# Altium integrated library Texas Instruments Interface Equalizer and Redriver.IntLib: 53 symbols (part 4 of 4)
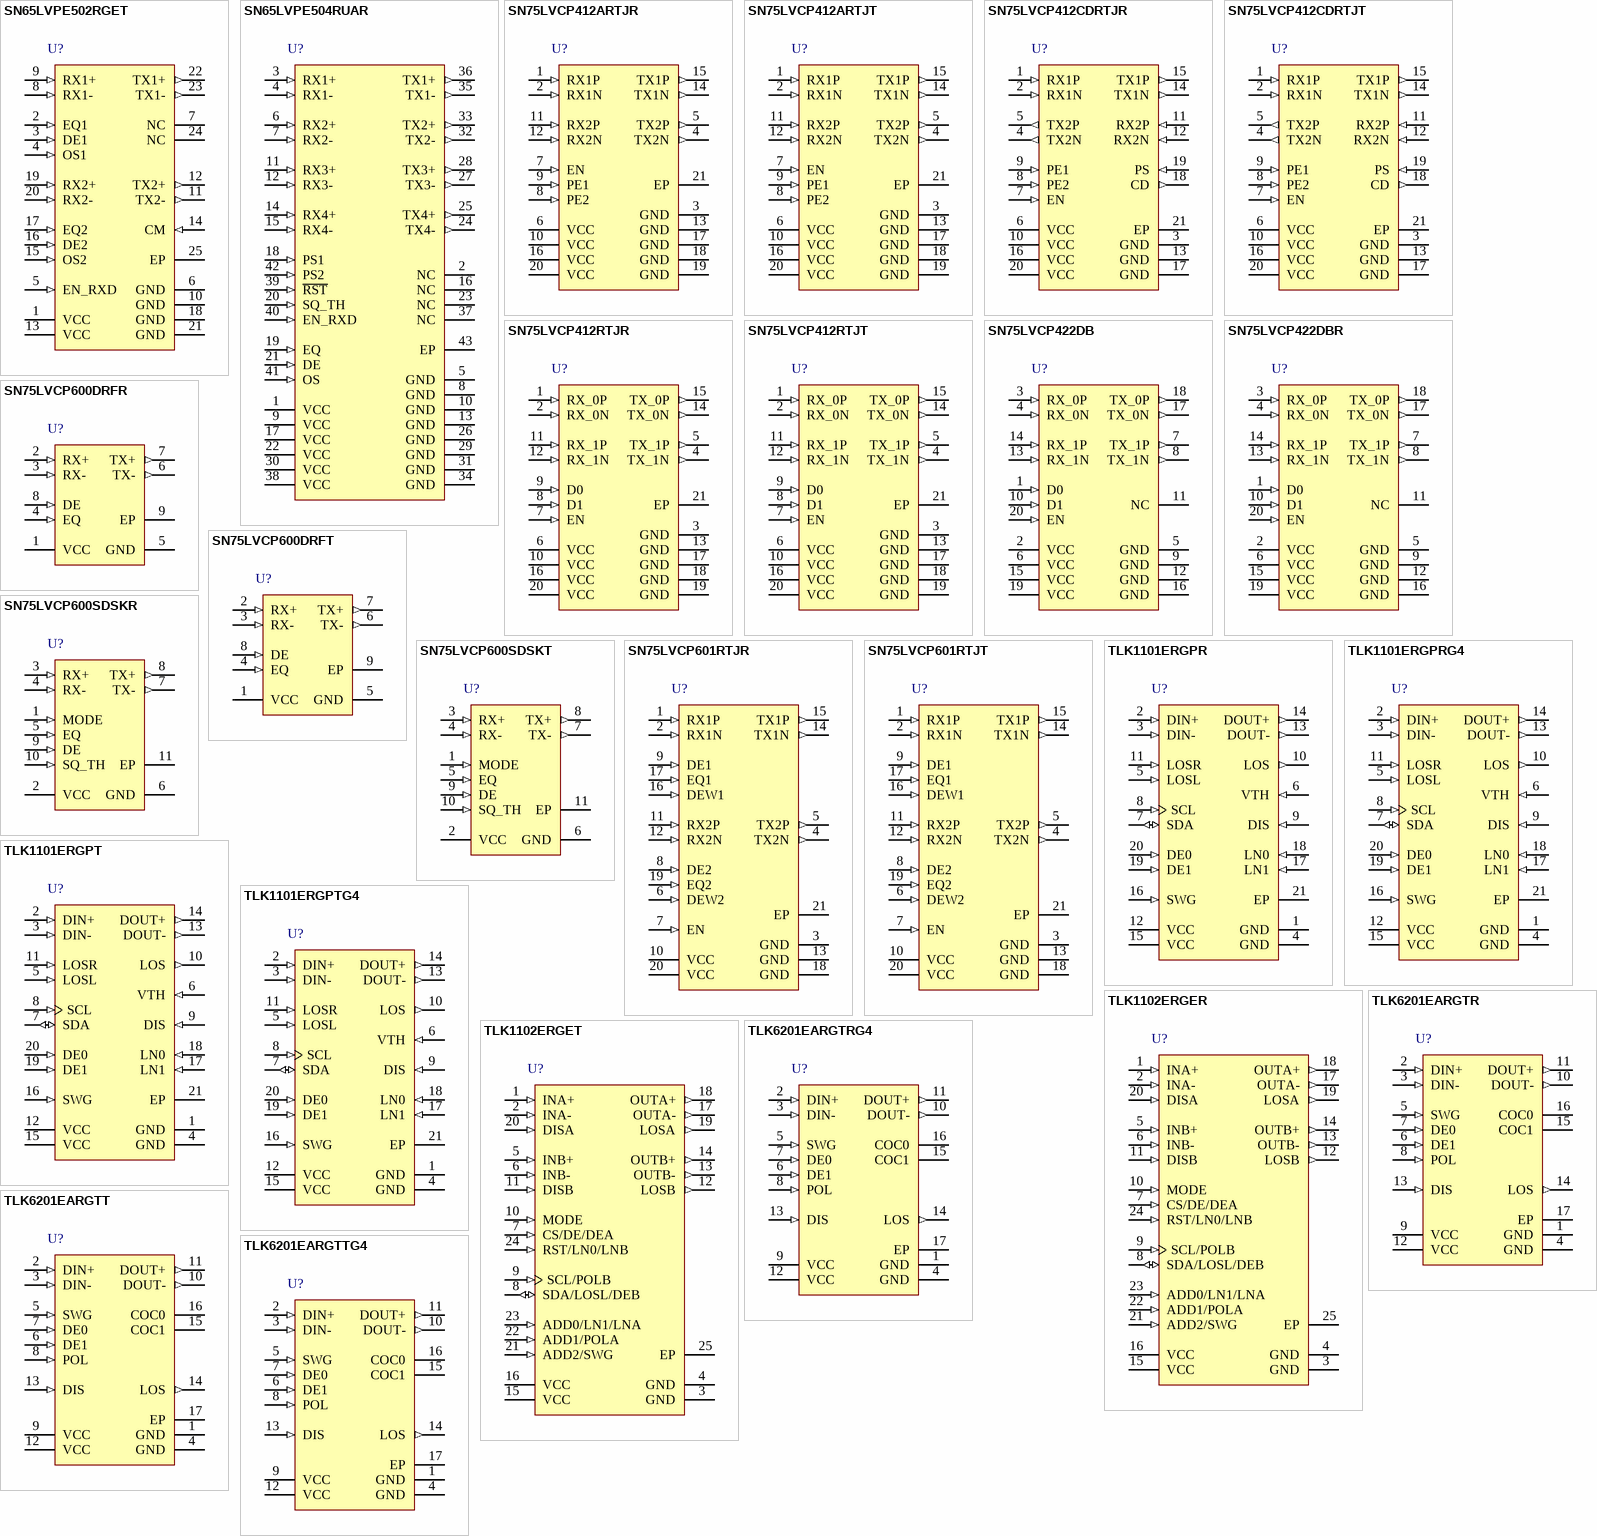
[diagram p5: symbols SN65LVPE502RGET to TLK6201EARGTTG4]

## TLK1101ERGPRG4
designator U?
11.3 Gbps Cable and PC Board Equalizer, 1 Channel, AC-Coupled to AC-Coupled, 3.3V, -40 to 100 degC, 20-Pin QFN (RGP), Green (RoHS & no Sb/Br); PartNumber: TLK1101ERGPRG4; Manufacturer: Texas Instruments; Protocols: 10GbE, 10GFC; Speed(Max)(Gbps): 11.3; Number of Channels: 1; SupplyVoltage(Volt): 3.3; ICC(Max)(mA): 120; OUT SigCon: DE; ESD HBM(kV): 2.5; DatasheetVersion: SLLS845A; PackageVersion: revG, Jul-2011; PackageReference: RGP20-2700X2700TP; PackageDescription: 20-Pin Plastic Quad Flatpack No-Lead, 4 x 4 mm Body, 0.5 mm Pitch; Mounting Technology: Surface Mount; Eco-Plan: Green (RoHS & no Sb/Br); Input Compatibility: AC-Coupled; Output Compatibility: AC-Coupled; Function: Equalizer; Code_JEDEC: MO-220; ComponentLink1Description: Datasheet; ComponentLink1URL: http://www.ti.com/general/docs/lit/getliterature.tsp?genericPartNumber=TLK1101E&fileType=pdf; ComponentLink2Description: Package Specification; ComponentLink2URL: http://www.ti.com/litv/pdf/mpqf126f
footprint RGP20-2700X2700TP (QFN, 20-Leads, Body 4x4mm, Pitch 0.5mm, Thermal Pad 2.7x2.7mm, TI Recommended)
pins: 1 GND (power) "Circuit ground.", 2 DIN+ (in) "Non-inverted data input. On-chip 50ohm terminated to VCC.", 3 DIN- (in) "Inverted data input. On-chip 50ohm terminated to VCC.", 4 GND (power) "Circuit ground.", 5 LOSL (in) "LOS threshold control. A controlling voltage on this pin adjusts the LOS assert and de-assert levels.", 6 VTH (in) "Input signal threshold control. A controlling voltage of 0V to 1V on this pin adjusts the input signal threshold. Leave open for the default 0V differential threshold.", 7 SDA (io) "Bidirectional serial data pin for the SDA/SCL interface. Open drain. Always connect to a pull-up resistor.", 8 SCL (in) "Serial clock pin for the SDA/SCL interface. Always connect to a pull-up resistor.", 9 DIS (in) "Disables CML output stage when set to high level. Internally pulled down.", 10 LOS (out) "High level indicates that the input signal amplitude is below the programmed threshold level. Open drain. Requires an external 10kohm pull-up resistor to VCC for proper operation.", 11 LOSR (in) "LOS range select. Set to high level or leave open for upper range, or set to low level for lower range.", 12 VCC (power) "3.3V +/- 10% supply voltage.", 13 DOUT- (out) "Inverted data output. On-chip 50ohm back-terminated to VCC.", 14 DOUT+ (out) "Non-inverted data output. On-chip 50ohm back-terminated to VCC.", 15 VCC (power) "3.3V +/- 10% supply voltage.", 16 SWG (in) "Output voltage swing control. Set to high level for high swing, set to low level for low swing, or leave open for medium swing.", 17 LN1 (in) "Interconnect length select. Supports two logic levels: high and low. (see Table 2)", 18 LN0 (in) "Interconnect length select. Supports two logic levels: high and low. (see Table 2)", 19 DE1 (in) "Output signal de-emphasis control. Supports three logic levels: high, low, and open. (see Table 1)", 20 DE0 (in) "Output signal de-emphasis control. Supports three logic levels: high, low, and open. (see Table 1)", 21 EP (power) "Exposed die pad (EP) must be grounded."

## TLK1101ERGPT
designator U?
11.3 Gbps Cable and PC Board Equalizer, 1 Channel, AC-Coupled to AC-Coupled, 3.3V, -40 to 100 degC, 20-Pin QFN (RGP), Green (RoHS & no Sb/Br); PartNumber: TLK1101ERGPT; Manufacturer: Texas Instruments; Protocols: 10GbE, 10GFC; Speed(Max)(Gbps): 11.3; Number of Channels: 1; SupplyVoltage(Volt): 3.3; ICC(Max)(mA): 120; OUT SigCon: DE; ESD HBM(kV): 2.5; DatasheetVersion: SLLS845A; PackageVersion: revG, Jul-2011; PackageReference: RGP20-2700X2700TP; PackageDescription: 20-Pin Plastic Quad Flatpack No-Lead, 4 x 4 mm Body, 0.5 mm Pitch; Mounting Technology: Surface Mount; Eco-Plan: Green (RoHS & no Sb/Br); Input Compatibility: AC-Coupled; Output Compatibility: AC-Coupled; Function: Equalizer; Code_JEDEC: MO-220; ComponentLink1Description: Datasheet; ComponentLink1URL: http://www.ti.com/general/docs/lit/getliterature.tsp?genericPartNumber=TLK1101E&fileType=pdf; ComponentLink2Description: Package Specification; ComponentLink2URL: http://www.ti.com/litv/pdf/mpqf126f
footprint RGP20-2700X2700TP (QFN, 20-Leads, Body 4x4mm, Pitch 0.5mm, Thermal Pad 2.7x2.7mm, TI Recommended)
pins: 1 GND (power) "Circuit ground.", 2 DIN+ (in) "Non-inverted data input. On-chip 50ohm terminated to VCC.", 3 DIN- (in) "Inverted data input. On-chip 50ohm terminated to VCC.", 4 GND (power) "Circuit ground.", 5 LOSL (in) "LOS threshold control. A controlling voltage on this pin adjusts the LOS assert and de-assert levels.", 6 VTH (in) "Input signal threshold control. A controlling voltage of 0V to 1V on this pin adjusts the input signal threshold. Leave open for the default 0V differential threshold.", 7 SDA (io) "Bidirectional serial data pin for the SDA/SCL interface. Open drain. Always connect to a pull-up resistor.", 8 SCL (in) "Serial clock pin for the SDA/SCL interface. Always connect to a pull-up resistor.", 9 DIS (in) "Disables CML output stage when set to high level. Internally pulled down.", 10 LOS (out) "High level indicates that the input signal amplitude is below the programmed threshold level. Open drain. Requires an external 10kohm pull-up resistor to VCC for proper operation.", 11 LOSR (in) "LOS range select. Set to high level or leave open for upper range, or set to low level for lower range.", 12 VCC (power) "3.3V +/- 10% supply voltage.", 13 DOUT- (out) "Inverted data output. On-chip 50ohm back-terminated to VCC.", 14 DOUT+ (out) "Non-inverted data output. On-chip 50ohm back-terminated to VCC.", 15 VCC (power) "3.3V +/- 10% supply voltage.", 16 SWG (in) "Output voltage swing control. Set to high level for high swing, set to low level for low swing, or leave open for medium swing.", 17 LN1 (in) "Interconnect length select. Supports two logic levels: high and low. (see Table 2)", 18 LN0 (in) "Interconnect length select. Supports two logic levels: high and low. (see Table 2)", 19 DE1 (in) "Output signal de-emphasis control. Supports three logic levels: high, low, and open. (see Table 1)", 20 DE0 (in) "Output signal de-emphasis control. Supports three logic levels: high, low, and open. (see Table 1)", 21 EP (power) "Exposed die pad (EP) must be grounded."

## TLK1101ERGPTG4
designator U?
11.3 Gbps Cable and PC Board Equalizer, 1 Channel, AC-Coupled to AC-Coupled, 3.3V, -40 to 100 degC, 20-Pin QFN (RGP), Green (RoHS & no Sb/Br); PartNumber: TLK1101ERGPTG4; Manufacturer: Texas Instruments; Protocols: 10GbE, 10GFC; Speed(Max)(Gbps): 11.3; Number of Channels: 1; SupplyVoltage(Volt): 3.3; ICC(Max)(mA): 120; OUT SigCon: DE; ESD HBM(kV): 2.5; DatasheetVersion: SLLS845A; PackageVersion: revG, Jul-2011; PackageReference: RGP20-2700X2700TP; PackageDescription: 20-Pin Plastic Quad Flatpack No-Lead, 4 x 4 mm Body, 0.5 mm Pitch; Mounting Technology: Surface Mount; Eco-Plan: Green (RoHS & no Sb/Br); Input Compatibility: AC-Coupled; Output Compatibility: AC-Coupled; Function: Equalizer; Code_JEDEC: MO-220; ComponentLink1Description: Datasheet; ComponentLink1URL: http://www.ti.com/general/docs/lit/getliterature.tsp?genericPartNumber=TLK1101E&fileType=pdf; ComponentLink2Description: Package Specification; ComponentLink2URL: http://www.ti.com/litv/pdf/mpqf126f
footprint RGP20-2700X2700TP (QFN, 20-Leads, Body 4x4mm, Pitch 0.5mm, Thermal Pad 2.7x2.7mm, TI Recommended)
pins: 1 GND (power) "Circuit ground.", 2 DIN+ (in) "Non-inverted data input. On-chip 50ohm terminated to VCC.", 3 DIN- (in) "Inverted data input. On-chip 50ohm terminated to VCC.", 4 GND (power) "Circuit ground.", 5 LOSL (in) "LOS threshold control. A controlling voltage on this pin adjusts the LOS assert and de-assert levels.", 6 VTH (in) "Input signal threshold control. A controlling voltage of 0V to 1V on this pin adjusts the input signal threshold. Leave open for the default 0V differential threshold.", 7 SDA (io) "Bidirectional serial data pin for the SDA/SCL interface. Open drain. Always connect to a pull-up resistor.", 8 SCL (in) "Serial clock pin for the SDA/SCL interface. Always connect to a pull-up resistor.", 9 DIS (in) "Disables CML output stage when set to high level. Internally pulled down.", 10 LOS (out) "High level indicates that the input signal amplitude is below the programmed threshold level. Open drain. Requires an external 10kohm pull-up resistor to VCC for proper operation.", 11 LOSR (in) "LOS range select. Set to high level or leave open for upper range, or set to low level for lower range.", 12 VCC (power) "3.3V +/- 10% supply voltage.", 13 DOUT- (out) "Inverted data output. On-chip 50ohm back-terminated to VCC.", 14 DOUT+ (out) "Non-inverted data output. On-chip 50ohm back-terminated to VCC.", 15 VCC (power) "3.3V +/- 10% supply voltage.", 16 SWG (in) "Output voltage swing control. Set to high level for high swing, set to low level for low swing, or leave open for medium swing.", 17 LN1 (in) "Interconnect length select. Supports two logic levels: high and low. (see Table 2)", 18 LN0 (in) "Interconnect length select. Supports two logic levels: high and low. (see Table 2)", 19 DE1 (in) "Output signal de-emphasis control. Supports three logic levels: high, low, and open. (see Table 1)", 20 DE0 (in) "Output signal de-emphasis control. Supports three logic levels: high, low, and open. (see Table 1)", 21 EP (power) "Exposed die pad (EP) must be grounded."

## TLK1102ERGER
designator U?
11.3 Gbps Dual-Channel Cable and PC Board Equalizer, 3.3V, -40 to 100 degC, 24-Pin VQFN (RGE), Green(RoHS& no Sb/Br); PartNumber: TLK1102ERGER; Manufacturer: Texas Instruments; Protocols: 10GbE, 10GFC; Speed(Max)(Gbps): 11.3; Number of Channels: 2; SupplyVoltage(Volt): 3.3; ICC(Max)(mA): 290; IN SigCon: EQ; OUT SigCon: DE; Input Compatibility: AC-Coupled; Output Compatibility: CML, AC-Coupled; ESD HBM(kV): 2.5; Function: Redriver; DatasheetVersion: SLLS958; PackageVersion: revG, Jul-2011; PackageReference: RGE24-2800X2800TP; PackageDescription: 24-Pin Plastic Quad Flatpack No-Lead, 4 x 4 mm Body, 0.5 mm Pitch; Mounting Technology: Surface Mount; Eco-Plan: Green (RoHS & no Sb/Br); Code_JEDEC: MO-220; ComponentLink1Description: Datasheet; ComponentLink1URL: http://www.ti.com/general/docs/lit/getliterature.tsp?genericPartNumber=TLK1102E&fileType=pdf; ComponentLink2Description: Package Specification; ComponentLink2URL: http://www.ti.com/litv/pdf/mpqf124f
footprint RGE24-2800X2800TP (QFN, 24-Leads, Body 4x4mm, Pitch 0.5mm, Thermal Pad 2.8x2.8mm, TI Recommended)
pins: 1 INA+ (in) "First pair of differential data inputs. Each pin is on-chip 50ohm terminated to VCC.", 2 INA- (in) "First pair of differential data inputs. Each pin is on-chip 50ohm terminated to VCC.", 3 GND (power) "Circuit ground", 4 GND (power) "Circuit ground", 5 INB+ (in) "Second pair of differential data inputs. Each pin is on-chip 50ohm terminated to VCC.", 6 INB- (in) "Second pair of differential data inputs. Each pin is on-chip 50ohm terminated to VCC.", 7 CS/DE/DEA (in) "Chip Select pin. Disables the two-wire serial interface when set to low level. Internally pulled up.", 8 SDA/LOSL/DEB (io) "Bidirectional serial data pin for the two-wire serial interface. Open drain. Connect to a 10kohm pull-up resistor if used. Leave open if unused.", 9 SCL/POLB (in) "Serial clock pin for the two-wire serial interface. Connect to a 10kohm pull-up resistor if used. Leave open if unused. Internally pulled up to VCC with a 500kohm resistor.", 10 MODE (in) "Device control mode select. Pull up to VCC for the two-wire serial interface control mode.", 11 DISB (in) "Disables CML output stage for OUTB+ and OUTB- when set to high level. Internally pulled down", 12 LOSB (out) "High level indicates that the input signal amplitude on INB+/INB- is below the programmed threshold level. Open drain. [see datasheet]", 13 OUTB- (out) "Second pair of differential data outputs. Each pin is on-chip 50ohm terminated to VCC.", 14 OUTB+ (out) "Second pair of differential data outputs. Each pin is on-chip 50ohm terminated to VCC.", 15 VCC (power) "3.3V +/- 10% supply voltage", 16 VCC (power) "3.3V +/- 10% supply voltage", 17 OUTA- (out) "First pair of differential data outputs. Each pin is on-chip 50ohm terminated to VCC.", 18 OUTA+ (out) "First pair of differential data outputs. Each pin is on-chip 50ohm terminated to VCC.", 19 LOSA (out) "High level indicates that the input signal amplitude on INA+/INA- is below the programmed threshold level. Open drain. [see datasheet]", 20 DISA (in) "Disables CML output stage for OUTA+ and OUTA- when set to high level. Internally pulled down.", 21 ADD2/SWG (in) "Configurable least significant bits (ADD[2:0]) of the two-wire serial interface device address. The 23 ADD0 fixed most significant bits (ADD[6:3]) of the 7-bit device address are 0101. [see datasheet]", 22 ADD1/POLA (in) "Configurable least significant bits (ADD[2:0]) of the two-wire serial interface device address. The 23 ADD0 fixed most significant bits (ADD[6:3]) of the 7-bit device address are 0101. [see datasheet]", 23 ADD0/LN1/LNA (in) "Configurable least significant bits (ADD[2:0]) of the two-wire serial interface device address. The 23 ADD0 fixed most significant bits (ADD[6:3]) of the 7-bit device address are 0101. [see datasheet]", 24 RST/LN0/LNB (in) "Reset pin. Resets all the device digital circuits when set to high level. Internally pulled down", 25 EP (power) "Exposed die pad (EP) must be grounded."

## TLK1102ERGET
designator U?
11.3 Gbps Dual-Channel Cable and PC Board Equalizer, 3.3V, -40 to 100 degC, 24-Pin VQFN (RGE), Green(RoHS& no Sb/Br); PartNumber: TLK1102ERGET; Manufacturer: Texas Instruments; Protocols: 10GbE, 10GFC; Speed(Max)(Gbps): 11.3; Number of Channels: 2; SupplyVoltage(Volt): 3.3; ICC(Max)(mA): 290; IN SigCon: EQ; OUT SigCon: DE; Input Compatibility: AC-Coupled; Output Compatibility: CML, AC-Coupled; ESD HBM(kV): 2.5; Function: Redriver; DatasheetVersion: SLLS958; PackageVersion: revG, Jul-2011; PackageReference: RGE24-2800X2800TP; PackageDescription: 24-Pin Plastic Quad Flatpack No-Lead, 4 x 4 mm Body, 0.5 mm Pitch; Mounting Technology: Surface Mount; Eco-Plan: Green (RoHS & no Sb/Br); Code_JEDEC: MO-220; ComponentLink1Description: Datasheet; ComponentLink1URL: http://www.ti.com/general/docs/lit/getliterature.tsp?genericPartNumber=TLK1102E&fileType=pdf; ComponentLink2Description: Package Specification; ComponentLink2URL: http://www.ti.com/litv/pdf/mpqf124f
footprint RGE24-2800X2800TP (QFN, 24-Leads, Body 4x4mm, Pitch 0.5mm, Thermal Pad 2.8x2.8mm, TI Recommended)
pins: 1 INA+ (in) "First pair of differential data inputs. Each pin is on-chip 50ohm terminated to VCC.", 2 INA- (in) "First pair of differential data inputs. Each pin is on-chip 50ohm terminated to VCC.", 3 GND (power) "Circuit ground", 4 GND (power) "Circuit ground", 5 INB+ (in) "Second pair of differential data inputs. Each pin is on-chip 50ohm terminated to VCC.", 6 INB- (in) "Second pair of differential data inputs. Each pin is on-chip 50ohm terminated to VCC.", 7 CS/DE/DEA (in) "Chip Select pin. Disables the two-wire serial interface when set to low level. Internally pulled up.", 8 SDA/LOSL/DEB (io) "Bidirectional serial data pin for the two-wire serial interface. Open drain. Connect to a 10kohm pull-up resistor if used. Leave open if unused.", 9 SCL/POLB (in) "Serial clock pin for the two-wire serial interface. Connect to a 10kohm pull-up resistor if used. Leave open if unused. Internally pulled up to VCC with a 500kohm resistor.", 10 MODE (in) "Device control mode select. Pull up to VCC for the two-wire serial interface control mode.", 11 DISB (in) "Disables CML output stage for OUTB+ and OUTB- when set to high level. Internally pulled down", 12 LOSB (out) "High level indicates that the input signal amplitude on INB+/INB- is below the programmed threshold level. Open drain. [see datasheet]", 13 OUTB- (out) "Second pair of differential data outputs. Each pin is on-chip 50ohm terminated to VCC.", 14 OUTB+ (out) "Second pair of differential data outputs. Each pin is on-chip 50ohm terminated to VCC.", 15 VCC (power) "3.3V +/- 10% supply voltage", 16 VCC (power) "3.3V +/- 10% supply voltage", 17 OUTA- (out) "First pair of differential data outputs. Each pin is on-chip 50ohm terminated to VCC.", 18 OUTA+ (out) "First pair of differential data outputs. Each pin is on-chip 50ohm terminated to VCC.", 19 LOSA (out) "High level indicates that the input signal amplitude on INA+/INA- is below the programmed threshold level. Open drain. [see datasheet]", 20 DISA (in) "Disables CML output stage for OUTA+ and OUTA- when set to high level. Internally pulled down.", 21 ADD2/SWG (in) "Configurable least significant bits (ADD[2:0]) of the two-wire serial interface device address. The 23 ADD0 fixed most significant bits (ADD[6:3]) of the 7-bit device address are 0101. [see datasheet]", 22 ADD1/POLA (in) "Configurable least significant bits (ADD[2:0]) of the two-wire serial interface device address. The 23 ADD0 fixed most significant bits (ADD[6:3]) of the 7-bit device address are 0101. [see datasheet]", 23 ADD0/LN1/LNA (in) "Configurable least significant bits (ADD[2:0]) of the two-wire serial interface device address. The 23 ADD0 fixed most significant bits (ADD[6:3]) of the 7-bit device address are 0101. [see datasheet]", 24 RST/LN0/LNB (in) "Reset pin. Resets all the device digital circuits when set to high level. Internally pulled down", 25 EP (power) "Exposed die pad (EP) must be grounded."

## TLK6201EARGTR
designator U?
6.25 Gbps Cable and PC Board Equalizer, 1 Channel, 3.3V, 16-Pin QFN (RGT), Green (RoHS & no Sb/Br); PartNumber: TLK6201EARGTR; Manufacturer: Texas Instruments; Protocols: PCIe, Infiniband, XAUI; Speed(Max)(Gbps): 6.25; Number of Channels: 1; SupplyVoltage(Volt): 3.3; ICC(Max)(mA): 67; OUT SigCon: DE; Input Compatibility: AC-Coupled; Output Compatibility: CML, AC-Coupled; ESD HBM(kV): 3; DatasheetVersion: SLLS738B; PackageVersion: revH, Oct-2011; PackageReference: RGT16-1650X1650TP; PackageDescription: 16-Pin Plastic Quad Flat No-Lead, 3 x 3 mm Body, 0.5 mm Pitch, 1.7 x 1.7 mm Exposed Pad; Mounting Technology: Surface Mount; Eco-Plan: Green (RoHS & no Sb/Br); Code_JEDEC: MO-220; ComponentLink1Description: Datasheet; ComponentLink1URL: http://www.ti.com/general/docs/lit/getliterature.tsp?genericPartNumber=TLK6201EA&fileType=pdf; ComponentLink2Description: Package Specification; ComponentLink2URL: http://www.ti.com/litv/pdf/mpqf119g
footprint RGT16-1650X1650TP (QFN, 16-Leads, Body 3x3mm, Pitch 0.5mm, Thermal Pad 1.7x1.7mm, TI Recommended)
pins: 1 GND (power) "Circuit ground. Exposed die pad (EP) must be grounded.", 2 DIN+ (in) "Noninverted data input. On-chip load terminated to ground. Connect a 100-ohm differential transmission line to terminals DIN+ and DIN-.", 3 DIN- (in) "Inverted data input. On-chip load terminated to ground. Connect a 100-ohm differential transmission line to terminals DIN+ and DIN-", 4 GND (power) "Circuit ground. Exposed die pad (EP) must be grounded.", 5 SWG (in) "Output swing control. The output swing is increased by 50% when set to high level. Internally pulled down.", 6 DE1 (in) "Selects 8 dB of output signal de-emphasis when set to high level. Internally pulled up.", 7 DE0 (in) "Selects 4 dB of output signal de-emphasis when set to high level. Internally pulled up.", 8 POL (in) "Output data signal polarity select (internally pulled up): Setting to high level or leaving pin open selects normal polarity. Low level selects inverted polarity.", 9 VCC (power) "3.3-V, '+/-10% supply voltage", 10 DOUT- (out) "Inverted data output. On-chip 50-ohm back-terminated to VCC.", 11 DOUT+ (out) "Noninverted data output. On-chip 50-ohm back-terminated to VCC", 12 VCC (power) "3.3-V, '+/-10% supply voltage", 13 DIS (in) "Disables CML output stage when set to high level. Internally pulled down.", 14 LOS (out) "High level indicates that the input signal amplitude is below the fixed threshold level.", 15 COC1 "Offset cancellation filter capacitor terminal 1. Connect an additional filter capacitor between this pin and COC0 (pin 16). [see datasheet]", 16 COC0 "Offset cancellation filter capacitor terminal 2. Connect an additional filter capacitor between this pin and COC1 (pin 15). [see datasheet]", 17 EP (power) "Circuit ground. Exposed die pad (EP) must be grounded."

## TLK6201EARGTRG4
designator U?
6.25 Gbps Cable and PC Board Equalizer, 1 Channel , 3.3V, 16-Pin QFN (RGT), Green (RoHS & no Sb/Br); PartNumber: TLK6201EARGTRG4; Manufacturer: Texas Instruments; Protocols: PCIe, Infiniband, XAUI; Speed(Max)(Gbps): 6.25; Number of Channels: 1; SupplyVoltage(Volt): 3.3; ICC(Max)(mA): 67; OUT SigCon: DE; Input Compatibility: AC-Coupled; Output Compatibility: CML, AC-Coupled; ESD HBM(kV): 3; DatasheetVersion: SLLS738B; PackageVersion: revH, Oct-2011; PackageReference: RGT16-1650X1650TP; PackageDescription: 16-Pin Plastic Quad Flat No-Lead, 3 x 3 mm Body, 0.5 mm Pitch, 1.7 x 1.7 mm Exposed Pad; Mounting Technology: Surface Mount; Eco-Plan: Green (RoHS & no Sb/Br); Code_JEDEC: MO-220; ComponentLink1Description: Datasheet; ComponentLink1URL: http://www.ti.com/general/docs/lit/getliterature.tsp?genericPartNumber=TLK6201EA&fileType=pdf; ComponentLink2Description: Package Specification; ComponentLink2URL: http://www.ti.com/litv/pdf/mpqf119g
footprint RGT16-1650X1650TP (QFN, 16-Leads, Body 3x3mm, Pitch 0.5mm, Thermal Pad 1.7x1.7mm, TI Recommended)
pins: 1 GND (power) "Circuit ground. Exposed die pad (EP) must be grounded.", 2 DIN+ (in) "Noninverted data input. On-chip load terminated to ground. Connect a 100-ohm differential transmission line to terminals DIN+ and DIN-.", 3 DIN- (in) "Inverted data input. On-chip load terminated to ground. Connect a 100-ohm differential transmission line to terminals DIN+ and DIN-", 4 GND (power) "Circuit ground. Exposed die pad (EP) must be grounded.", 5 SWG (in) "Output swing control. The output swing is increased by 50% when set to high level. Internally pulled down.", 6 DE1 (in) "Selects 8 dB of output signal de-emphasis when set to high level. Internally pulled up.", 7 DE0 (in) "Selects 4 dB of output signal de-emphasis when set to high level. Internally pulled up.", 8 POL (in) "Output data signal polarity select (internally pulled up): Setting to high level or leaving pin open selects normal polarity. Low level selects inverted polarity.", 9 VCC (power) "3.3-V, '+/-10% supply voltage", 10 DOUT- (out) "Inverted data output. On-chip 50-ohm back-terminated to VCC.", 11 DOUT+ (out) "Noninverted data output. On-chip 50-ohm back-terminated to VCC", 12 VCC (power) "3.3-V, '+/-10% supply voltage", 13 DIS (in) "Disables CML output stage when set to high level. Internally pulled down.", 14 LOS (out) "High level indicates that the input signal amplitude is below the fixed threshold level.", 15 COC1 "Offset cancellation filter capacitor terminal 1. Connect an additional filter capacitor between this pin and COC0 (pin 16). [see datasheet]", 16 COC0 "Offset cancellation filter capacitor terminal 2. Connect an additional filter capacitor between this pin and COC1 (pin 15). [see datasheet]", 17 EP (power) "Circuit ground. Exposed die pad (EP) must be grounded."

## TLK6201EARGTT
designator U?
6.25 Gbps Cable and PC Board Equalizer, 1 Channel, 3.3V, 16-Pin QFN (RGT), Green (RoHS & no Sb/Br); PartNumber: TLK6201EARGTT; Manufacturer: Texas Instruments; Protocols: PCIe, Infiniband, XAUI; Speed(Max)(Gbps): 6.25; Number of Channels: 1; SupplyVoltage(Volt): 3.3; ICC(Max)(mA): 67; OUT SigCon: DE; Input Compatibility: AC-Coupled; Output Compatibility: CML, AC-Coupled; ESD HBM(kV): 3; DatasheetVersion: SLLS738B; PackageVersion: revH, Oct-2011; PackageReference: RGT16-1650X1650TP; PackageDescription: 16-Pin Plastic Quad Flat No-Lead, 3 x 3 mm Body, 0.5 mm Pitch, 1.7 x 1.7 mm Exposed Pad; Mounting Technology: Surface Mount; Eco-Plan: Green (RoHS & no Sb/Br); Code_JEDEC: MO-220; ComponentLink1Description: Datasheet; ComponentLink1URL: http://www.ti.com/general/docs/lit/getliterature.tsp?genericPartNumber=TLK6201EA&fileType=pdf; ComponentLink2Description: Package Specification; ComponentLink2URL: http://www.ti.com/litv/pdf/mpqf119g
footprint RGT16-1650X1650TP (QFN, 16-Leads, Body 3x3mm, Pitch 0.5mm, Thermal Pad 1.7x1.7mm, TI Recommended)
pins: 1 GND (power) "Circuit ground. Exposed die pad (EP) must be grounded.", 2 DIN+ (in) "Noninverted data input. On-chip load terminated to ground. Connect a 100-ohm differential transmission line to terminals DIN+ and DIN-.", 3 DIN- (in) "Inverted data input. On-chip load terminated to ground. Connect a 100-ohm differential transmission line to terminals DIN+ and DIN-", 4 GND (power) "Circuit ground. Exposed die pad (EP) must be grounded.", 5 SWG (in) "Output swing control. The output swing is increased by 50% when set to high level. Internally pulled down.", 6 DE1 (in) "Selects 8 dB of output signal de-emphasis when set to high level. Internally pulled up.", 7 DE0 (in) "Selects 4 dB of output signal de-emphasis when set to high level. Internally pulled up.", 8 POL (in) "Output data signal polarity select (internally pulled up): Setting to high level or leaving pin open selects normal polarity. Low level selects inverted polarity.", 9 VCC (power) "3.3-V, '+/-10% supply voltage", 10 DOUT- (out) "Inverted data output. On-chip 50-ohm back-terminated to VCC.", 11 DOUT+ (out) "Noninverted data output. On-chip 50-ohm back-terminated to VCC", 12 VCC (power) "3.3-V, '+/-10% supply voltage", 13 DIS (in) "Disables CML output stage when set to high level. Internally pulled down.", 14 LOS (out) "High level indicates that the input signal amplitude is below the fixed threshold level.", 15 COC1 "Offset cancellation filter capacitor terminal 1. Connect an additional filter capacitor between this pin and COC0 (pin 16). [see datasheet]", 16 COC0 "Offset cancellation filter capacitor terminal 2. Connect an additional filter capacitor between this pin and COC1 (pin 15). [see datasheet]", 17 EP (power) "Circuit ground. Exposed die pad (EP) must be grounded."

## TLK6201EARGTTG4
designator U?
6.25 Gbps Cable and PC Board Equalizer, 1 Channel, 3.3V, 16-Pin QFN (RGT), Green (RoHS & no Sb/Br); PartNumber: TLK6201EARGTTG4; Manufacturer: Texas Instruments; Protocols: PCIe, Infiniband, XAUI; Speed(Max)(Gbps): 6.25; Number of Channels: 1; SupplyVoltage(Volt): 3.3; ICC(Max)(mA): 67; OUT SigCon: DE; Input Compatibility: AC-Coupled; Output Compatibility: CML, AC-Coupled; ESD HBM(kV): 3; DatasheetVersion: SLLS738B; PackageVersion: revH, Oct-2011; PackageReference: RGT16-1650X1650TP; PackageDescription: 16-Pin Plastic Quad Flat No-Lead, 3 x 3 mm Body, 0.5 mm Pitch, 1.7 x 1.7 mm Exposed Pad; Mounting Technology: Surface Mount; Eco-Plan: Green (RoHS & no Sb/Br); Code_JEDEC: MO-220; ComponentLink1Description: Datasheet; ComponentLink1URL: http://www.ti.com/general/docs/lit/getliterature.tsp?genericPartNumber=TLK6201EA&fileType=pdf; ComponentLink2Description: Package Specification; ComponentLink2URL: http://www.ti.com/litv/pdf/mpqf119g
footprint RGT16-1650X1650TP (QFN, 16-Leads, Body 3x3mm, Pitch 0.5mm, Thermal Pad 1.7x1.7mm, TI Recommended)
pins: 1 GND (power) "Circuit ground. Exposed die pad (EP) must be grounded.", 2 DIN+ (in) "Noninverted data input. On-chip load terminated to ground. Connect a 100-ohm differential transmission line to terminals DIN+ and DIN-.", 3 DIN- (in) "Inverted data input. On-chip load terminated to ground. Connect a 100-ohm differential transmission line to terminals DIN+ and DIN-", 4 GND (power) "Circuit ground. Exposed die pad (EP) must be grounded.", 5 SWG (in) "Output swing control. The output swing is increased by 50% when set to high level. Internally pulled down.", 6 DE1 (in) "Selects 8 dB of output signal de-emphasis when set to high level. Internally pulled up.", 7 DE0 (in) "Selects 4 dB of output signal de-emphasis when set to high level. Internally pulled up.", 8 POL (in) "Output data signal polarity select (internally pulled up): Setting to high level or leaving pin open selects normal polarity. Low level selects inverted polarity.", 9 VCC (power) "3.3-V, '+/-10% supply voltage", 10 DOUT- (out) "Inverted data output. On-chip 50-ohm back-terminated to VCC.", 11 DOUT+ (out) "Noninverted data output. On-chip 50-ohm back-terminated to VCC", 12 VCC (power) "3.3-V, '+/-10% supply voltage", 13 DIS (in) "Disables CML output stage when set to high level. Internally pulled down.", 14 LOS (out) "High level indicates that the input signal amplitude is below the fixed threshold level.", 15 COC1 "Offset cancellation filter capacitor terminal 1. Connect an additional filter capacitor between this pin and COC0 (pin 16). [see datasheet]", 16 COC0 "Offset cancellation filter capacitor terminal 2. Connect an additional filter capacitor between this pin and COC1 (pin 15). [see datasheet]", 17 EP (power) "Circuit ground. Exposed die pad (EP) must be grounded."